# EAGLE library part DRV2603 (library DRV2603)
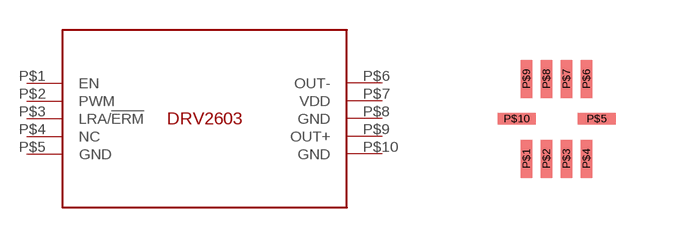
[diagram p0: symbol with the pads of DRV2603; footprint DRV2603]

Designator prefix U

## DRV2603  [DRV2603]
P$1  EN
P$2  PWM
P$3  LRA/!ERM
P$4  NC
P$5  GND
P$6  OUT-
P$7  VDD
P$8  GND
P$9  OUT+
P$10  GND

## Footprint DRV2603 (pad centres in mm)
smd 0.28 x 0.95: P$1 -0.75,-1; P$2 -0.25,-1; P$3 0.25,-1; P$4 0.75,-1; P$6 0.75,1; P$7 0.25,1; P$8 -0.25,1; P$9 -0.75,1
smd 0.95 x 0.28: P$5 1,0; P$10 -1,0